# EAGLE library part DRV8833C (library Kas-FET)
DRV8833C Dual H-Bridge Motor Driver
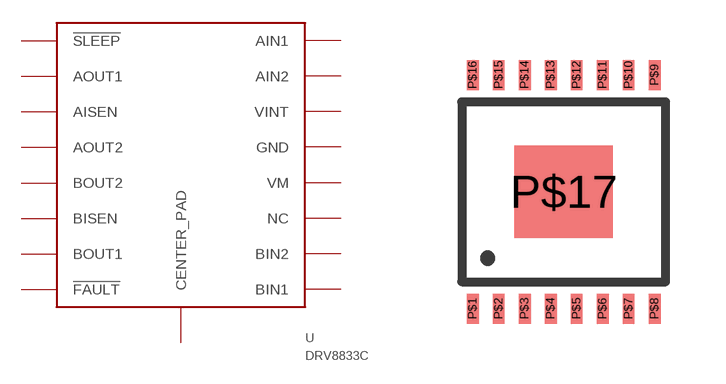
[diagram p0: symbol with the pads of 16-TSSOP; footprint 16-TSSOP]

Designator prefix -

## DRV8833C  [16-TSSOP]
P$1  !SLEEP
P$2  AOUT1
P$3  AISEN
P$4  AOUT2
P$5  BOUT2
P$6  BISEN
P$7  BOUT1
P$8  !FAULT
P$9  BIN1
P$10  BIN2
P$11  NC
P$12  VM
P$13  GND
P$14  VINT
P$15  AIN2
P$16  AIN1
P$17  CENTER_PAD

## Footprint 16-TSSOP (pad centres in mm)
smd 0.3 x 0.75: P$1 -2.275,-2.925; P$2 -1.625,-2.925; P$3 -0.975,-2.925; P$4 -0.325,-2.925; P$5 0.325,-2.925; P$6 0.975,-2.925; P$7 1.625,-2.925; P$8 2.275,-2.925; P$9 2.275,2.925; P$10 1.625,2.925; P$11 0.975,2.925; P$12 0.325,2.925; P$13 -0.325,2.925; P$14 -0.975,2.925; P$15 -1.625,2.925; P$16 -2.275,2.925
smd 2.46 x 2.31: P$17 0,0